# EAGLE library part TB-840502-6 (library Digilent)
Terminal Block, screw contact
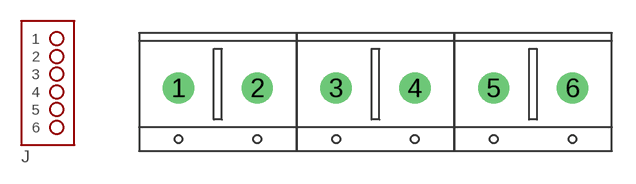
[diagram p19: symbol with the pads of TB-840502-6; footprint TB-840502-6]

Designator prefix J

## TB-840502-6  [TB-840502-6]
1  1  pas
2  2  pas
3  3  pas
4  4  pas
5  5  pas
6  6  pas

## Footprint TB-840502-6 (pad centres in mm)
drill 1.321 round: 1 -12.5,0; 2 -7.5,0; 3 -2.5,0; 4 2.5,0; 5 7.5,0; 6 12.5,0